# Altium schematic symbol library connector.SchLib: 1 symbol
Pins are listed as number, name and electrical type; pins without a type are passive.

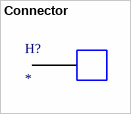
[diagram p0: symbol Connector]

## Connector
designator H?  (no BOM)
footprint connector_small
footprint connector_large
pins: 1